# Altium schematic symbol library MIC23150-SYMT.Schlib: 1 symbol
Pins are listed as number, name and electrical type; pins without a type are passive.

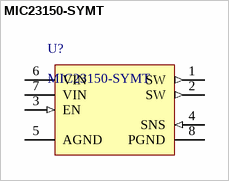
[diagram p0: symbol MIC23150-SYMT]

## MIC23150-SYMT
designator U?
Buck Switching Regulator IC Positive Fixed 3.3V 1 Output 2A 8-UFDFN
pins: 1 SW (out), 2 SW (out), 3 EN (in), 4 SNS (in), 5 AGND (power), 6 VIN (power), 7 VIN (power), 8 PGND (power)